# Altium integrated library Altium_WA-SMSI_rev22a.IntLib: 179 symbols (part 3 of 3)
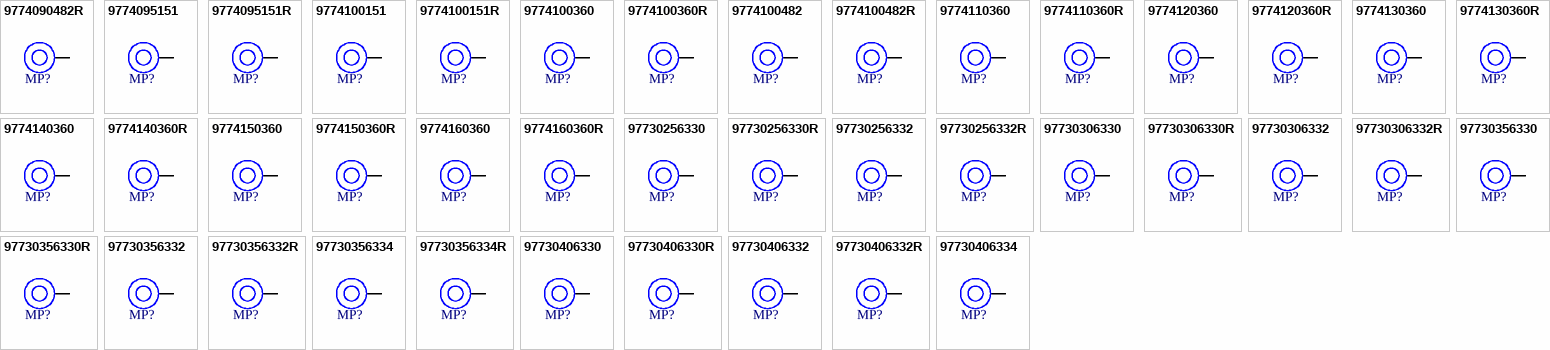
[diagram p6: symbols 9774090482R to 97730406334]

## 9774130360R
designator MP?, comment M3 x 13mm  (value not drawn)
WA-SMSI SMT Steel Spacer with internal Thread, OD 6mm, M3 x 13mm; Manufacturer Part Number: 9774130360R; Manufacturer: Wurth Elektronik; Inside Diameter: 4.2mm; Surface: Tin; ComponentLink1Description: Website Link; ComponentLink1URL: https://www.we-online.com/redexpert/article/9774130360R?ad; ComponentLink2Description: Datasheet Link; ComponentLink2URL: https://www.we-online.com/redexpert/spec/9774130360R?ad; Category: SMT Spacers; Match Code: WA-SMSI; Mount: Surface Mount; Operating Temperature Max: 150°C; Operating Temperature Min: -55°C; Packaging: Tape and Reel; Height: 13mm; Material: Steel; Outside Diameter: 6mm; Thread Size: M3
footprint 9774130360
pins: 1

## 9774140360
designator MP?, comment M3 x 14mm  (value not drawn)
WA-SMSI SMT Steel Spacer with internal Thread, OD 6mm, M3 x 14mm; Manufacturer Part Number: 9774140360; Manufacturer: Wurth Elektronik; Inside Diameter: 4.2mm; Surface: Tin; ComponentLink1Description: Website Link; ComponentLink1URL: https://www.we-online.com/redexpert/article/9774140360?ad; ComponentLink2Description: Datasheet Link; ComponentLink2URL: https://www.we-online.com/redexpert/spec/9774140360?ad; Category: SMT Spacers; Match Code: WA-SMSI; Mount: Surface Mount; Operating Temperature Max: 150°C; Operating Temperature Min: -55°C; Packaging: Bulk; Height: 14mm; Material: Steel; Outside Diameter: 6mm; Thread Size: M3
footprint 9774140360
pins: 1

## 9774140360R
designator MP?, comment M3 x 14mm  (value not drawn)
WA-SMSI SMT Steel Spacer with internal Thread, OD 6mm, M3 x 14mm; Manufacturer Part Number: 9774140360R; Manufacturer: Wurth Elektronik; Inside Diameter: 4.2mm; Surface: Tin; ComponentLink1Description: Website Link; ComponentLink1URL: https://www.we-online.com/redexpert/article/9774140360R?ad; ComponentLink2Description: Datasheet Link; ComponentLink2URL: https://www.we-online.com/redexpert/spec/9774140360R?ad; Category: SMT Spacers; Match Code: WA-SMSI; Mount: Surface Mount; Operating Temperature Max: 150°C; Operating Temperature Min: -55°C; Packaging: Tape and Reel; Height: 14mm; Material: Steel; Outside Diameter: 6mm; Thread Size: M3
footprint 9774140360
pins: 1

## 9774150360
designator MP?, comment M3 x 15mm  (value not drawn)
WA-SMSI SMT Steel Spacer with internal Thread, OD 6mm, M3 x 15mm; Manufacturer Part Number: 9774150360; Manufacturer: Wurth Elektronik; Inside Diameter: 4.2mm; Surface: Tin; ComponentLink1Description: Website Link; ComponentLink1URL: https://www.we-online.com/redexpert/article/9774150360?ad; ComponentLink2Description: Datasheet Link; ComponentLink2URL: https://www.we-online.com/redexpert/spec/9774150360?ad; Category: SMT Spacers; Match Code: WA-SMSI; Mount: Surface Mount; Operating Temperature Max: 150°C; Operating Temperature Min: -55°C; Packaging: Bulk; Height: 15mm; Material: Steel; Outside Diameter: 6mm; Thread Size: M3
footprint 9774150360
pins: 1

## 9774150360R
designator MP?, comment M3 x 15mm  (value not drawn)
WA-SMSI SMT Steel Spacer with internal Thread, OD 6mm, M3 x 15mm; Manufacturer Part Number: 9774150360R; Manufacturer: Wurth Elektronik; Inside Diameter: 4.2mm; Surface: Tin; ComponentLink1Description: Website Link; ComponentLink1URL: https://www.we-online.com/redexpert/article/9774150360R?ad; ComponentLink2Description: Datasheet Link; ComponentLink2URL: https://www.we-online.com/redexpert/spec/9774150360R?ad; Category: SMT Spacers; Match Code: WA-SMSI; Mount: Surface Mount; Operating Temperature Max: 150°C; Operating Temperature Min: -55°C; Packaging: Tape and Reel; Height: 15mm; Material: Steel; Outside Diameter: 6mm; Thread Size: M3
footprint 9774150360
pins: 1

## 9774160360
designator MP?, comment M3 x 16mm  (value not drawn)
WA-SMSI SMT Steel Spacer with internal Thread, OD 6mm, M3 x 16mm; Manufacturer Part Number: 9774160360; Manufacturer: Wurth Elektronik; Inside Diameter: 4.2mm; Surface: Tin; ComponentLink1Description: Website Link; ComponentLink1URL: https://www.we-online.com/redexpert/article/9774160360?ad; ComponentLink2Description: Datasheet Link; ComponentLink2URL: https://www.we-online.com/redexpert/spec/9774160360?ad; Category: SMT Spacers; Match Code: WA-SMSI; Mount: Surface Mount; Operating Temperature Max: 150°C; Operating Temperature Min: -55°C; Packaging: Bulk; Height: 16mm; Material: Steel; Outside Diameter: 6mm; Thread Size: M3
footprint 9774160360
pins: 1

## 9774160360R
designator MP?, comment M3 x 16mm  (value not drawn)
WA-SMSI SMT Steel Spacer with internal Thread, OD 6mm, M3 x 16mm; Manufacturer Part Number: 9774160360R; Manufacturer: Wurth Elektronik; Inside Diameter: 4.2mm; Surface: Tin; ComponentLink1Description: Website Link; ComponentLink1URL: https://www.we-online.com/redexpert/article/9774160360R?ad; ComponentLink2Description: Datasheet Link; ComponentLink2URL: https://www.we-online.com/redexpert/spec/9774160360R?ad; Category: SMT Spacers; Match Code: WA-SMSI; Mount: Surface Mount; Operating Temperature Max: 150°C; Operating Temperature Min: -55°C; Packaging: Tape and Reel; Height: 16mm; Material: Steel; Outside Diameter: 6mm; Thread Size: M3
footprint 9774160360
pins: 1

## 97730256330
designator MP?, comment M1.6 x 2.5mm  (value not drawn)
WA-SMSI SMT Steel Spacer with internal Thread Bottom closed, OD 3.3mm, M1.6 x 2.5mm; Manufacturer Part Number: 97730256330; Manufacturer: Wurth Elektronik; Inside Thread Length: 1.5mm; Surface: Tin; ComponentLink1Description: Website Link; ComponentLink1URL: https://www.we-online.com/redexpert/article/97730256330?ad; ComponentLink2Description: Datasheet Link; ComponentLink2URL: https://www.we-online.com/redexpert/spec/97730256330?ad; Category: SMT Spacers; Match Code: WA-SMSI; Mount: Surface Mount; Operating Temperature Max: 150°C; Operating Temperature Min: -55°C; Packaging: Bulk; Height: 2.5mm; Material: Steel; Outside Diameter: 3.3mm; Thread Size: M1.6
footprint 97730256330
pins: 1

## 97730256330R
designator MP?, comment M1.6 x 2.5mm  (value not drawn)
WA-SMSI SMT Steel Spacer with internal Thread Bottom closed, OD 3.3mm, M1.6 x 2.5mm; Manufacturer Part Number: 97730256330R; Manufacturer: Wurth Elektronik; Inside Thread Length: 1.5mm; Surface: Tin; ComponentLink1Description: Website Link; ComponentLink1URL: https://www.we-online.com/redexpert/article/97730256330R?ad; ComponentLink2Description: Datasheet Link; ComponentLink2URL: https://www.we-online.com/redexpert/spec/97730256330R?ad; Category: SMT Spacers; Match Code: WA-SMSI; Mount: Surface Mount; Operating Temperature Max: 150°C; Operating Temperature Min: -55°C; Packaging: Tape and Reel; Height: 2.5mm; Material: Steel; Outside Diameter: 3.3mm; Thread Size: M1.6
footprint 97730256330
pins: 1

## 97730256332
designator MP?, comment M1.6 x 2.5mm  (value not drawn)
WA-SMSI SMT Steel Spacer with internal Thread with Pin, OD 3.3mm, M1.6 x 2.5mm; Manufacturer Part Number: 97730256332; Manufacturer: Wurth Elektronik; Inside Thread Length: 1.5mm; Surface: Tin; ComponentLink1Description: Website Link; ComponentLink1URL: https://www.we-online.com/redexpert/article/97730256332?ad; ComponentLink2Description: Datasheet Link; ComponentLink2URL: https://www.we-online.com/redexpert/spec/97730256332?ad; Category: SMT Spacers; Match Code: WA-SMSI; Mount: Surface Mount; Operating Temperature Max: 150°C; Operating Temperature Min: -55°C; Packaging: Bulk; Height: 2.5mm; Material: Steel; Outside Diameter: 3.3mm; Thread Size: M1.6
footprint 97730256332
pins: 1

## 97730256332R
designator MP?, comment M1.6 x 2.5mm  (value not drawn)
WA-SMSI SMT Steel Spacer with internal Thread with Pin, OD 3.3mm, M1.6 x 2.5mm; Manufacturer Part Number: 97730256332R; Manufacturer: Wurth Elektronik; Inside Thread Length: 1.5mm; Surface: Tin; ComponentLink1Description: Website Link; ComponentLink1URL: https://www.we-online.com/redexpert/article/97730256332R?ad; ComponentLink2Description: Datasheet Link; ComponentLink2URL: https://www.we-online.com/redexpert/spec/97730256332R?ad; Category: SMT Spacers; Match Code: WA-SMSI; Mount: Surface Mount; Operating Temperature Max: 150°C; Operating Temperature Min: -55°C; Packaging: Tape and Reel; Height: 2.5mm; Material: Steel; Outside Diameter: 3.3mm; Thread Size: M1.6
footprint 97730256332
pins: 1

## 97730306330
designator MP?, comment M1.6 x 3mm  (value not drawn)
WA-SMSI SMT Steel Spacer with internal Thread Bottom closed, OD 3.3mm, M1.6 x 3mm; Manufacturer Part Number: 97730306330; Manufacturer: Wurth Elektronik; Inside Thread Length: 1.8mm; Surface: Tin; ComponentLink1Description: Website Link; ComponentLink1URL: https://www.we-online.com/redexpert/article/97730306330?ad; ComponentLink2Description: Datasheet Link; ComponentLink2URL: https://www.we-online.com/redexpert/spec/97730306330?ad; Category: SMT Spacers; Match Code: WA-SMSI; Mount: Surface Mount; Operating Temperature Max: 150°C; Operating Temperature Min: -55°C; Packaging: Bulk; Height: 3mm; Material: Steel; Outside Diameter: 3.3mm; Thread Size: M1.6
footprint 97730306330
pins: 1

## 97730306330R
designator MP?, comment M1.6 x 3mm  (value not drawn)
WA-SMSI SMT Steel Spacer with internal Thread Bottom closed, OD 3.3mm, M1.6 x 3mm; Manufacturer Part Number: 97730306330R; Manufacturer: Wurth Elektronik; Inside Thread Length: 1.8mm; Surface: Tin; ComponentLink1Description: Website Link; ComponentLink1URL: https://www.we-online.com/redexpert/article/97730306330R?ad; ComponentLink2Description: Datasheet Link; ComponentLink2URL: https://www.we-online.com/redexpert/spec/97730306330R?ad; Category: SMT Spacers; Match Code: WA-SMSI; Mount: Surface Mount; Operating Temperature Max: 150°C; Operating Temperature Min: -55°C; Packaging: Tape and Reel; Height: 3mm; Material: Steel; Outside Diameter: 3.3mm; Thread Size: M1.6
footprint 97730306330
pins: 1

## 97730306332
designator MP?, comment M1.6 x 3mm  (value not drawn)
WA-SMSI SMT Steel Spacer with internal Thread with Pin, OD 3.3mm, M1.6 x 3mm; Manufacturer Part Number: 97730306332; Manufacturer: Wurth Elektronik; Inside Thread Length: 1.8mm; Surface: Tin; ComponentLink1Description: Website Link; ComponentLink1URL: https://www.we-online.com/redexpert/article/97730306332?ad; ComponentLink2Description: Datasheet Link; ComponentLink2URL: https://www.we-online.com/redexpert/spec/97730306332?ad; Category: SMT Spacers; Match Code: WA-SMSI; Mount: Surface Mount; Operating Temperature Max: 150°C; Operating Temperature Min: -55°C; Packaging: Bulk; Height: 3mm; Material: Steel; Outside Diameter: 3.3mm; Thread Size: M1.6
footprint 97730306332
pins: 1

## 97730306332R
designator MP?, comment M1.6 x 3mm  (value not drawn)
WA-SMSI SMT Steel Spacer with internal Thread with Pin, OD 3.3mm, M1.6 x 3mm; Manufacturer Part Number: 97730306332R; Manufacturer: Wurth Elektronik; Inside Thread Length: 1.8mm; Surface: Tin; ComponentLink1Description: Website Link; ComponentLink1URL: https://www.we-online.com/redexpert/article/97730306332R?ad; ComponentLink2Description: Datasheet Link; ComponentLink2URL: https://www.we-online.com/redexpert/spec/97730306332R?ad; Category: SMT Spacers; Match Code: WA-SMSI; Mount: Surface Mount; Operating Temperature Max: 150°C; Operating Temperature Min: -55°C; Packaging: Tape and Reel; Height: 3mm; Material: Steel; Outside Diameter: 3.3mm; Thread Size: M1.6
footprint 97730306332
pins: 1

## 97730356330
designator MP?, comment M1.6 x 3.5mm  (value not drawn)
WA-SMSI SMT Steel Spacer with internal Thread Bottom closed, OD 3.3mm, M1.6 x 3.5mm; Manufacturer Part Number: 97730356330; Manufacturer: Wurth Elektronik; Inside Thread Length: 2mm; Surface: Tin; ComponentLink1Description: Website Link; ComponentLink1URL: https://www.we-online.com/redexpert/article/97730356330?ad; ComponentLink2Description: Datasheet Link; ComponentLink2URL: https://www.we-online.com/redexpert/spec/97730356330?ad; Category: SMT Spacers; Match Code: WA-SMSI; Mount: Surface Mount; Operating Temperature Max: 150°C; Operating Temperature Min: -55°C; Packaging: Bulk; Height: 3.5mm; Material: Steel; Outside Diameter: 3.3mm; Thread Size: M1.6
footprint 97730356330
pins: 1

## 97730356330R
designator MP?, comment M1.6 x 3.5mm  (value not drawn)
WA-SMSI SMT Steel Spacer with internal Thread Bottom closed, OD 3.3mm, M1.6 x 3.5mm; Manufacturer Part Number: 97730356330R; Manufacturer: Wurth Elektronik; Inside Thread Length: 2mm; Surface: Tin; ComponentLink1Description: Website Link; ComponentLink1URL: https://www.we-online.com/redexpert/article/97730356330R?ad; ComponentLink2Description: Datasheet Link; ComponentLink2URL: https://www.we-online.com/redexpert/spec/97730356330R?ad; Category: SMT Spacers; Match Code: WA-SMSI; Mount: Surface Mount; Operating Temperature Max: 150°C; Operating Temperature Min: -55°C; Packaging: Tape and Reel; Height: 3.5mm; Material: Steel; Outside Diameter: 3.3mm; Thread Size: M1.6
footprint 97730356330
pins: 1

## 97730356332
designator MP?, comment M1.6 x 3.5mm  (value not drawn)
WA-SMSI SMT Steel Spacer with internal Thread with Pin, OD 3.3mm, M1.6 x 3.5mm; Manufacturer Part Number: 97730356332; Manufacturer: Wurth Elektronik; Inside Thread Length: 2mm; Surface: Tin; ComponentLink1Description: Website Link; ComponentLink1URL: https://www.we-online.com/redexpert/article/97730356332?ad; ComponentLink2Description: Datasheet Link; ComponentLink2URL: https://www.we-online.com/redexpert/spec/97730356332?ad; Category: SMT Spacers; Match Code: WA-SMSI; Mount: Surface Mount; Operating Temperature Max: 150°C; Operating Temperature Min: -55°C; Packaging: Bulk; Height: 3.5mm; Material: Steel; Outside Diameter: 3.3mm; Thread Size: M1.6
footprint 97730356332
pins: 1

## 97730356332R
designator MP?, comment M1.6 x 3.5mm  (value not drawn)
WA-SMSI SMT Steel Spacer with internal Thread with Pin, OD 3.3mm, M1.6 x 3.5mm; Manufacturer Part Number: 97730356332R; Manufacturer: Wurth Elektronik; Inside Thread Length: 2mm; Surface: Tin; ComponentLink1Description: Website Link; ComponentLink1URL: https://www.we-online.com/redexpert/article/97730356332R?ad; ComponentLink2Description: Datasheet Link; ComponentLink2URL: https://www.we-online.com/redexpert/spec/97730356332R?ad; Category: SMT Spacers; Match Code: WA-SMSI; Mount: Surface Mount; Operating Temperature Max: 150°C; Operating Temperature Min: -55°C; Packaging: Tape and Reel; Height: 3.5mm; Material: Steel; Outside Diameter: 3.3mm; Thread Size: M1.6
footprint 97730356332
pins: 1

## 97730356334
designator MP?, comment M1.6 x 3.5mm  (value not drawn)
WA-SMSI SMT Steel Spacer with internal Thread, OD 3.3mm, M1.6 x 3.5mm; Manufacturer Part Number: 97730356334; Manufacturer: Wurth Elektronik; Inside Diameter: 1.9mm; Inside Thread Length: 2mm; Surface: Tin; ComponentLink1Description: Website Link; ComponentLink1URL: https://www.we-online.com/redexpert/article/97730356334?ad; ComponentLink2Description: Datasheet Link; ComponentLink2URL: https://www.we-online.com/redexpert/spec/97730356334?ad; Category: SMT Spacers; Match Code: WA-SMSI; Mount: Surface Mount; Operating Temperature Max: 150°C; Operating Temperature Min: -55°C; Packaging: Bulk; Height: 3.5mm; Material: Steel; Outside Diameter: 3.3mm; Thread Size: M1.6
footprint 97730356334
pins: 1

## 97730356334R
designator MP?, comment M1.6 x 3.5mm  (value not drawn)
WA-SMSI SMT Steel Spacer with internal Thread, OD 3.3mm, M1.6 x 3.5mm; Manufacturer Part Number: 97730356334R; Manufacturer: Wurth Elektronik; Inside Diameter: 1.9mm; Inside Thread Length: 2mm; Surface: Tin; ComponentLink1Description: Website Link; ComponentLink1URL: https://www.we-online.com/redexpert/article/97730356334R?ad; ComponentLink2Description: Datasheet Link; ComponentLink2URL: https://www.we-online.com/redexpert/spec/97730356334R?ad; Category: SMT Spacers; Match Code: WA-SMSI; Mount: Surface Mount; Operating Temperature Max: 150°C; Operating Temperature Min: -55°C; Packaging: Tape and Reel; Height: 3.5mm; Material: Steel; Outside Diameter: 3.3mm; Thread Size: M1.6
footprint 97730356334
pins: 1

## 97730406330
designator MP?, comment M1.6 x 4mm  (value not drawn)
WA-SMSI SMT Steel Spacer with internal Thread Bottom closed, OD 3.3mm, M1.6 x 4mm; Manufacturer Part Number: 97730406330; Manufacturer: Wurth Elektronik; Inside Thread Length: 2mm; Surface: Tin; ComponentLink1Description: Website Link; ComponentLink1URL: https://www.we-online.com/redexpert/article/97730406330?ad; ComponentLink2Description: Datasheet Link; ComponentLink2URL: https://www.we-online.com/redexpert/spec/97730406330?ad; Category: SMT Spacers; Match Code: WA-SMSI; Mount: Surface Mount; Operating Temperature Max: 150°C; Operating Temperature Min: -55°C; Packaging: Bulk; Height: 4mm; Material: Steel; Outside Diameter: 3.3mm; Thread Size: M1.6
footprint 97730406330
pins: 1

## 97730406330R
designator MP?, comment M1.6 x 4mm  (value not drawn)
WA-SMSI SMT Steel Spacer with internal Thread Bottom closed, OD 3.3mm, M1.6 x 4mm; Manufacturer Part Number: 97730406330R; Manufacturer: Wurth Elektronik; Inside Thread Length: 2mm; Surface: Tin; ComponentLink1Description: Website Link; ComponentLink1URL: https://www.we-online.com/redexpert/article/97730406330R?ad; ComponentLink2Description: Datasheet Link; ComponentLink2URL: https://www.we-online.com/redexpert/spec/97730406330R?ad; Category: SMT Spacers; Match Code: WA-SMSI; Mount: Surface Mount; Operating Temperature Max: 150°C; Operating Temperature Min: -55°C; Packaging: Tape and Reel; Height: 4mm; Material: Steel; Outside Diameter: 3.3mm; Thread Size: M1.6
footprint 97730406330
pins: 1

## 97730406332
designator MP?, comment M1.6 x 4mm  (value not drawn)
WA-SMSI SMT Steel Spacer with internal Thread with Pin, OD 3.3mm, M1.6 x 4mm; Manufacturer Part Number: 97730406332; Manufacturer: Wurth Elektronik; Inside Thread Length: 2mm; Surface: Tin; ComponentLink1Description: Website Link; ComponentLink1URL: https://www.we-online.com/redexpert/article/97730406332?ad; ComponentLink2Description: Datasheet Link; ComponentLink2URL: https://www.we-online.com/redexpert/spec/97730406332?ad; Category: SMT Spacers; Match Code: WA-SMSI; Mount: Surface Mount; Operating Temperature Max: 150°C; Operating Temperature Min: -55°C; Packaging: Bulk; Height: 4mm; Material: Steel; Outside Diameter: 3.3mm; Thread Size: M1.6
footprint 97730406332
pins: 1

## 97730406332R
designator MP?, comment M1.6 x 4mm  (value not drawn)
WA-SMSI SMT Steel Spacer with internal Thread with Pin, OD 3.3mm, M1.6 x 4mm; Manufacturer Part Number: 97730406332R; Manufacturer: Wurth Elektronik; Inside Thread Length: 2mm; Surface: Tin; ComponentLink1Description: Website Link; ComponentLink1URL: https://www.we-online.com/redexpert/article/97730406332R?ad; ComponentLink2Description: Datasheet Link; ComponentLink2URL: https://www.we-online.com/redexpert/spec/97730406332R?ad; Category: SMT Spacers; Match Code: WA-SMSI; Mount: Surface Mount; Operating Temperature Max: 150°C; Operating Temperature Min: -55°C; Packaging: Tape and Reel; Height: 4mm; Material: Steel; Outside Diameter: 3.3mm; Thread Size: M1.6
footprint 97730406332
pins: 1

## 97730406334
designator MP?, comment M1.6 x 4mm  (value not drawn)
WA-SMSI SMT Steel Spacer with internal Thread, OD 3.3mm, M1.6 x 4mm; Manufacturer Part Number: 97730406334; Manufacturer: Wurth Elektronik; Inside Diameter: 1.9mm; Inside Thread Length: 2mm; Surface: Tin; ComponentLink1Description: Website Link; ComponentLink1URL: https://www.we-online.com/redexpert/article/97730406334?ad; ComponentLink2Description: Datasheet Link; ComponentLink2URL: https://www.we-online.com/redexpert/spec/97730406334?ad; Category: SMT Spacers; Match Code: WA-SMSI; Mount: Surface Mount; Operating Temperature Max: 150°C; Operating Temperature Min: -55°C; Packaging: Bulk; Height: 4mm; Material: Steel; Outside Diameter: 3.3mm; Thread Size: M1.6
footprint 97730406334
pins: 1

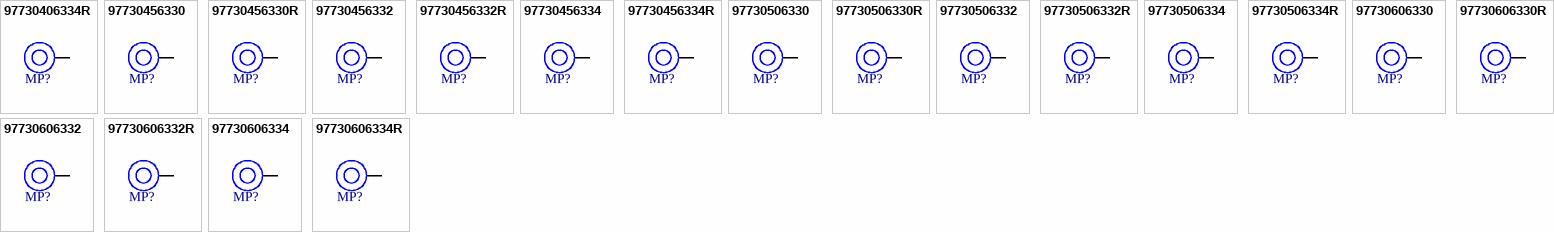
[diagram p4: symbols 97730406334R to 97730606334R]

## 97730406334R
designator MP?, comment M1.6 x 4mm  (value not drawn)
WA-SMSI SMT Steel Spacer with internal Thread, OD 3.3mm, M1.6 x 4mm; Manufacturer Part Number: 97730406334R; Manufacturer: Wurth Elektronik; Inside Diameter: 1.9mm; Inside Thread Length: 2mm; Surface: Tin; ComponentLink1Description: Website Link; ComponentLink1URL: https://www.we-online.com/redexpert/article/97730406334R?ad; ComponentLink2Description: Datasheet Link; ComponentLink2URL: https://www.we-online.com/redexpert/spec/97730406334R?ad; Category: SMT Spacers; Match Code: WA-SMSI; Mount: Surface Mount; Operating Temperature Max: 150°C; Operating Temperature Min: -55°C; Packaging: Tape and Reel; Height: 4mm; Material: Steel; Outside Diameter: 3.3mm; Thread Size: M1.6
footprint 97730406334
pins: 1

## 97730456330
designator MP?, comment M1.6 x 4.5mm  (value not drawn)
WA-SMSI SMT Steel Spacer with internal Thread Bottom closed, OD 3.3mm, M1.6 x 4.5mm; Manufacturer Part Number: 97730456330; Manufacturer: Wurth Elektronik; Inside Thread Length: 2mm; Surface: Tin; ComponentLink1Description: Website Link; ComponentLink1URL: https://www.we-online.com/redexpert/article/97730456330?ad; ComponentLink2Description: Datasheet Link; ComponentLink2URL: https://www.we-online.com/redexpert/spec/97730456330?ad; Category: SMT Spacers; Match Code: WA-SMSI; Mount: Surface Mount; Operating Temperature Max: 150°C; Operating Temperature Min: -55°C; Packaging: Bulk; Height: 4.5mm; Material: Steel; Outside Diameter: 3.3mm; Thread Size: M1.6
footprint 97730456330
pins: 1

## 97730456330R
designator MP?, comment M1.6 x 4.5mm  (value not drawn)
WA-SMSI SMT Steel Spacer with internal Thread Bottom closed, OD 3.3mm, M1.6 x 4.5mm; Manufacturer Part Number: 97730456330R; Manufacturer: Wurth Elektronik; Inside Thread Length: 2mm; Surface: Tin; ComponentLink1Description: Website Link; ComponentLink1URL: https://www.we-online.com/redexpert/article/97730456330R?ad; ComponentLink2Description: Datasheet Link; ComponentLink2URL: https://www.we-online.com/redexpert/spec/97730456330R?ad; Category: SMT Spacers; Match Code: WA-SMSI; Mount: Surface Mount; Operating Temperature Max: 150°C; Operating Temperature Min: -55°C; Packaging: Tape and Reel; Height: 4.5mm; Material: Steel; Outside Diameter: 3.3mm; Thread Size: M1.6
footprint 97730456330
pins: 1

## 97730456332
designator MP?, comment M1.6 x 4.5mm  (value not drawn)
WA-SMSI SMT Steel Spacer with internal Thread with Pin, OD 3.3mm, M1.6 x 4.5mm; Manufacturer Part Number: 97730456332; Manufacturer: Wurth Elektronik; Inside Thread Length: 2mm; Surface: Tin; ComponentLink1Description: Website Link; ComponentLink1URL: https://www.we-online.com/redexpert/article/97730456332?ad; ComponentLink2Description: Datasheet Link; ComponentLink2URL: https://www.we-online.com/redexpert/spec/97730456332?ad; Category: SMT Spacers; Match Code: WA-SMSI; Mount: Surface Mount; Operating Temperature Max: 150°C; Operating Temperature Min: -55°C; Packaging: Bulk; Height: 4.5mm; Material: Steel; Outside Diameter: 3.3mm; Thread Size: M1.6
footprint 97730456332
pins: 1

## 97730456332R
designator MP?, comment M1.6 x 4.5mm  (value not drawn)
WA-SMSI SMT Steel Spacer with internal Thread with Pin, OD 3.3mm, M1.6 x 4.5mm; Manufacturer Part Number: 97730456332R; Manufacturer: Wurth Elektronik; Inside Thread Length: 2mm; Surface: Tin; ComponentLink1Description: Website Link; ComponentLink1URL: https://www.we-online.com/redexpert/article/97730456332R?ad; ComponentLink2Description: Datasheet Link; ComponentLink2URL: https://www.we-online.com/redexpert/spec/97730456332R?ad; Category: SMT Spacers; Match Code: WA-SMSI; Mount: Surface Mount; Operating Temperature Max: 150°C; Operating Temperature Min: -55°C; Packaging: Tape and Reel; Height: 4.5mm; Material: Steel; Outside Diameter: 3.3mm; Thread Size: M1.6
footprint 97730456332
pins: 1

## 97730456334
designator MP?, comment M1.6 x 4.5mm  (value not drawn)
WA-SMSI SMT Steel Spacer with internal Thread, OD 3.3mm, M1.6 x 4.5mm; Manufacturer Part Number: 97730456334; Manufacturer: Wurth Elektronik; Inside Diameter: 1.9mm; Inside Thread Length: 2mm; Surface: Tin; ComponentLink1Description: Website Link; ComponentLink1URL: https://www.we-online.com/redexpert/article/97730456334?ad; ComponentLink2Description: Datasheet Link; ComponentLink2URL: https://www.we-online.com/redexpert/spec/97730456334?ad; Category: SMT Spacers; Match Code: WA-SMSI; Mount: Surface Mount; Operating Temperature Max: 150°C; Operating Temperature Min: -55°C; Packaging: Bulk; Height: 4.5mm; Material: Steel; Outside Diameter: 3.3mm; Thread Size: M1.6
footprint 97730456334
pins: 1

## 97730456334R
designator MP?, comment M1.6 x 4.5mm  (value not drawn)
WA-SMSI SMT Steel Spacer with internal Thread, OD 3.3mm, M1.6 x 4.5mm; Manufacturer Part Number: 97730456334R; Manufacturer: Wurth Elektronik; Inside Diameter: 1.9mm; Inside Thread Length: 2mm; Surface: Tin; ComponentLink1Description: Website Link; ComponentLink1URL: https://www.we-online.com/redexpert/article/97730456334R?ad; ComponentLink2Description: Datasheet Link; ComponentLink2URL: https://www.we-online.com/redexpert/spec/97730456334R?ad; Category: SMT Spacers; Match Code: WA-SMSI; Mount: Surface Mount; Operating Temperature Max: 150°C; Operating Temperature Min: -55°C; Packaging: Tape and Reel; Height: 4.5mm; Material: Steel; Outside Diameter: 3.3mm; Thread Size: M1.6
footprint 97730456334
pins: 1

## 97730506330
designator MP?, comment M1.6 x 5mm  (value not drawn)
WA-SMSI SMT Steel Spacer with internal Thread Bottom closed, OD 3.3mm, M1.6 x 5mm; Manufacturer Part Number: 97730506330; Manufacturer: Wurth Elektronik; Inside Thread Length: 2mm; Surface: Tin; ComponentLink1Description: Website Link; ComponentLink1URL: https://www.we-online.com/redexpert/article/97730506330?ad; ComponentLink2Description: Datasheet Link; ComponentLink2URL: https://www.we-online.com/redexpert/spec/97730506330?ad; Category: SMT Spacers; Match Code: WA-SMSI; Mount: Surface Mount; Operating Temperature Max: 150°C; Operating Temperature Min: -55°C; Packaging: Bulk; Height: 5mm; Material: Steel; Outside Diameter: 3.3mm; Thread Size: M1.6
footprint 97730506330
pins: 1

## 97730506330R
designator MP?, comment M1.6 x 5mm  (value not drawn)
WA-SMSI SMT Steel Spacer with internal Thread Bottom closed, OD 3.3mm, M1.6 x 5mm; Manufacturer Part Number: 97730506330R; Manufacturer: Wurth Elektronik; Inside Thread Length: 2mm; Surface: Tin; ComponentLink1Description: Website Link; ComponentLink1URL: https://www.we-online.com/redexpert/article/97730506330R?ad; ComponentLink2Description: Datasheet Link; ComponentLink2URL: https://www.we-online.com/redexpert/spec/97730506330R?ad; Category: SMT Spacers; Match Code: WA-SMSI; Mount: Surface Mount; Operating Temperature Max: 150°C; Operating Temperature Min: -55°C; Packaging: Tape and Reel; Height: 5mm; Material: Steel; Outside Diameter: 3.3mm; Thread Size: M1.6
footprint 97730506330
pins: 1

## 97730506332
designator MP?, comment M1.6 x 5mm  (value not drawn)
WA-SMSI SMT Steel Spacer with internal Thread with Pin, OD 3.3mm, M1.6 x 5mm; Manufacturer Part Number: 97730506332; Manufacturer: Wurth Elektronik; Inside Thread Length: 2mm; Surface: Tin; ComponentLink1Description: Website Link; ComponentLink1URL: https://www.we-online.com/redexpert/article/97730506332?ad; ComponentLink2Description: Datasheet Link; ComponentLink2URL: https://www.we-online.com/redexpert/spec/97730506332?ad; Category: SMT Spacers; Match Code: WA-SMSI; Mount: Surface Mount; Operating Temperature Max: 150°C; Operating Temperature Min: -55°C; Packaging: Bulk; Height: 5mm; Material: Steel; Outside Diameter: 3.3mm; Thread Size: M1.6
footprint 97730506332
pins: 1

## 97730506332R
designator MP?, comment M1.6 x 5mm  (value not drawn)
WA-SMSI SMT Steel Spacer with internal Thread with Pin, OD 3.3mm, M1.6 x 5mm; Manufacturer Part Number: 97730506332R; Manufacturer: Wurth Elektronik; Inside Thread Length: 2mm; Surface: Tin; ComponentLink1Description: Website Link; ComponentLink1URL: https://www.we-online.com/redexpert/article/97730506332R?ad; ComponentLink2Description: Datasheet Link; ComponentLink2URL: https://www.we-online.com/redexpert/spec/97730506332R?ad; Category: SMT Spacers; Match Code: WA-SMSI; Mount: Surface Mount; Operating Temperature Max: 150°C; Operating Temperature Min: -55°C; Packaging: Tape and Reel; Height: 5mm; Material: Steel; Outside Diameter: 3.3mm; Thread Size: M1.6
footprint 97730506332
pins: 1

## 97730506334
designator MP?, comment M1.6 x 5mm  (value not drawn)
WA-SMSI SMT Steel Spacer with internal Thread, OD 3.3mm, M1.6 x 5mm; Manufacturer Part Number: 97730506334; Manufacturer: Wurth Elektronik; Inside Diameter: 1.9mm; Inside Thread Length: 2mm; Surface: Tin; ComponentLink1Description: Website Link; ComponentLink1URL: https://www.we-online.com/redexpert/article/97730506334?ad; ComponentLink2Description: Datasheet Link; ComponentLink2URL: https://www.we-online.com/redexpert/spec/97730506334?ad; Category: SMT Spacers; Match Code: WA-SMSI; Mount: Surface Mount; Operating Temperature Max: 150°C; Operating Temperature Min: -55°C; Packaging: Bulk; Height: 5mm; Material: Steel; Outside Diameter: 3.3mm; Thread Size: M1.6
footprint 97730506334
pins: 1

## 97730506334R
designator MP?, comment M1.6 x 5mm  (value not drawn)
WA-SMSI SMT Steel Spacer with internal Thread, OD 3.3mm, M1.6 x 5mm; Manufacturer Part Number: 97730506334R; Manufacturer: Wurth Elektronik; Inside Diameter: 1.9mm; Inside Thread Length: 2mm; Surface: Tin; ComponentLink1Description: Website Link; ComponentLink1URL: https://www.we-online.com/redexpert/article/97730506334R?ad; ComponentLink2Description: Datasheet Link; ComponentLink2URL: https://www.we-online.com/redexpert/spec/97730506334R?ad; Category: SMT Spacers; Match Code: WA-SMSI; Mount: Surface Mount; Operating Temperature Max: 150°C; Operating Temperature Min: -55°C; Packaging: Tape and Reel; Height: 5mm; Material: Steel; Outside Diameter: 3.3mm; Thread Size: M1.6
footprint 97730506334
pins: 1

## 97730606330
designator MP?, comment M1.6 x 6mm  (value not drawn)
WA-SMSI SMT Steel Spacer with internal Thread Bottom closed, OD 3.3mm, M1.6 x 6mm; Manufacturer Part Number: 97730606330; Manufacturer: Wurth Elektronik; Inside Thread Length: 2mm; Surface: Tin; ComponentLink1Description: Website Link; ComponentLink1URL: https://www.we-online.com/redexpert/article/97730606330?ad; ComponentLink2Description: Datasheet Link; ComponentLink2URL: https://www.we-online.com/redexpert/spec/97730606330?ad; Category: SMT Spacers; Match Code: WA-SMSI; Mount: Surface Mount; Operating Temperature Max: 150°C; Operating Temperature Min: -55°C; Packaging: Bulk; Height: 6mm; Material: Steel; Outside Diameter: 3.3mm; Thread Size: M1.6
footprint 97730606330
pins: 1

## 97730606330R
designator MP?, comment M1.6 x 6mm  (value not drawn)
WA-SMSI SMT Steel Spacer with internal Thread Bottom closed, OD 3.3mm, M1.6 x 6mm; Manufacturer Part Number: 97730606330R; Manufacturer: Wurth Elektronik; Inside Thread Length: 2mm; Surface: Tin; ComponentLink1Description: Website Link; ComponentLink1URL: https://www.we-online.com/redexpert/article/97730606330R?ad; ComponentLink2Description: Datasheet Link; ComponentLink2URL: https://www.we-online.com/redexpert/spec/97730606330R?ad; Category: SMT Spacers; Match Code: WA-SMSI; Mount: Surface Mount; Operating Temperature Max: 150°C; Operating Temperature Min: -55°C; Packaging: Tape and Reel; Height: 6mm; Material: Steel; Outside Diameter: 3.3mm; Thread Size: M1.6
footprint 97730606330
pins: 1

## 97730606332
designator MP?, comment M1.6 x 6mm  (value not drawn)
WA-SMSI SMT Steel Spacer with internal Thread with Pin, OD 3.3mm, M1.6 x 6mm; Manufacturer Part Number: 97730606332; Manufacturer: Wurth Elektronik; Inside Thread Length: 2mm; Surface: Tin; ComponentLink1Description: Website Link; ComponentLink1URL: https://www.we-online.com/redexpert/article/97730606332?ad; ComponentLink2Description: Datasheet Link; ComponentLink2URL: https://www.we-online.com/redexpert/spec/97730606332?ad; Category: SMT Spacers; Match Code: WA-SMSI; Mount: Surface Mount; Operating Temperature Max: 150°C; Operating Temperature Min: -55°C; Packaging: Bulk; Height: 6mm; Material: Steel; Outside Diameter: 3.3mm; Thread Size: M1.6
footprint 97730606332
pins: 1

## 97730606332R
designator MP?, comment M1.6 x 6mm  (value not drawn)
WA-SMSI SMT Steel Spacer with internal Thread with Pin, OD 3.3mm, M1.6 x 6mm; Manufacturer Part Number: 97730606332R; Manufacturer: Wurth Elektronik; Inside Thread Length: 2mm; Surface: Tin; ComponentLink1Description: Website Link; ComponentLink1URL: https://www.we-online.com/redexpert/article/97730606332R?ad; ComponentLink2Description: Datasheet Link; ComponentLink2URL: https://www.we-online.com/redexpert/spec/97730606332R?ad; Category: SMT Spacers; Match Code: WA-SMSI; Mount: Surface Mount; Operating Temperature Max: 150°C; Operating Temperature Min: -55°C; Packaging: Tape and Reel; Height: 6mm; Material: Steel; Outside Diameter: 3.3mm; Thread Size: M1.6
footprint 97730606332
pins: 1

## 97730606334
designator MP?, comment M1.6 x 6mm  (value not drawn)
WA-SMSI SMT Steel Spacer with internal Thread, OD 3.3mm, M1.6 x 6mm; Manufacturer Part Number: 97730606334; Manufacturer: Wurth Elektronik; Inside Diameter: 1.9mm; Inside Thread Length: 2mm; Surface: Tin; ComponentLink1Description: Website Link; ComponentLink1URL: https://www.we-online.com/redexpert/article/97730606334?ad; ComponentLink2Description: Datasheet Link; ComponentLink2URL: https://www.we-online.com/redexpert/spec/97730606334?ad; Category: SMT Spacers; Match Code: WA-SMSI; Mount: Surface Mount; Operating Temperature Max: 150°C; Operating Temperature Min: -55°C; Packaging: Bulk; Height: 6mm; Material: Steel; Outside Diameter: 3.3mm; Thread Size: M1.6
footprint 97730606334
pins: 1

## 97730606334R
designator MP?, comment M1.6 x 6mm  (value not drawn)
WA-SMSI SMT Steel Spacer with internal Thread, OD 3.3mm, M1.6 x 6mm; Manufacturer Part Number: 97730606334R; Manufacturer: Wurth Elektronik; Inside Diameter: 1.9mm; Inside Thread Length: 2mm; Surface: Tin; ComponentLink1Description: Website Link; ComponentLink1URL: https://www.we-online.com/redexpert/article/97730606334R?ad; ComponentLink2Description: Datasheet Link; ComponentLink2URL: https://www.we-online.com/redexpert/spec/97730606334R?ad; Category: SMT Spacers; Match Code: WA-SMSI; Mount: Surface Mount; Operating Temperature Max: 150°C; Operating Temperature Min: -55°C; Packaging: Tape and Reel; Height: 6mm; Material: Steel; Outside Diameter: 3.3mm; Thread Size: M1.6
footprint 97730606334
pins: 1